# Altium integrated library TI Data Converters Analog to Digital Converter.IntLib: 2197 symbols (part 3 of 168)
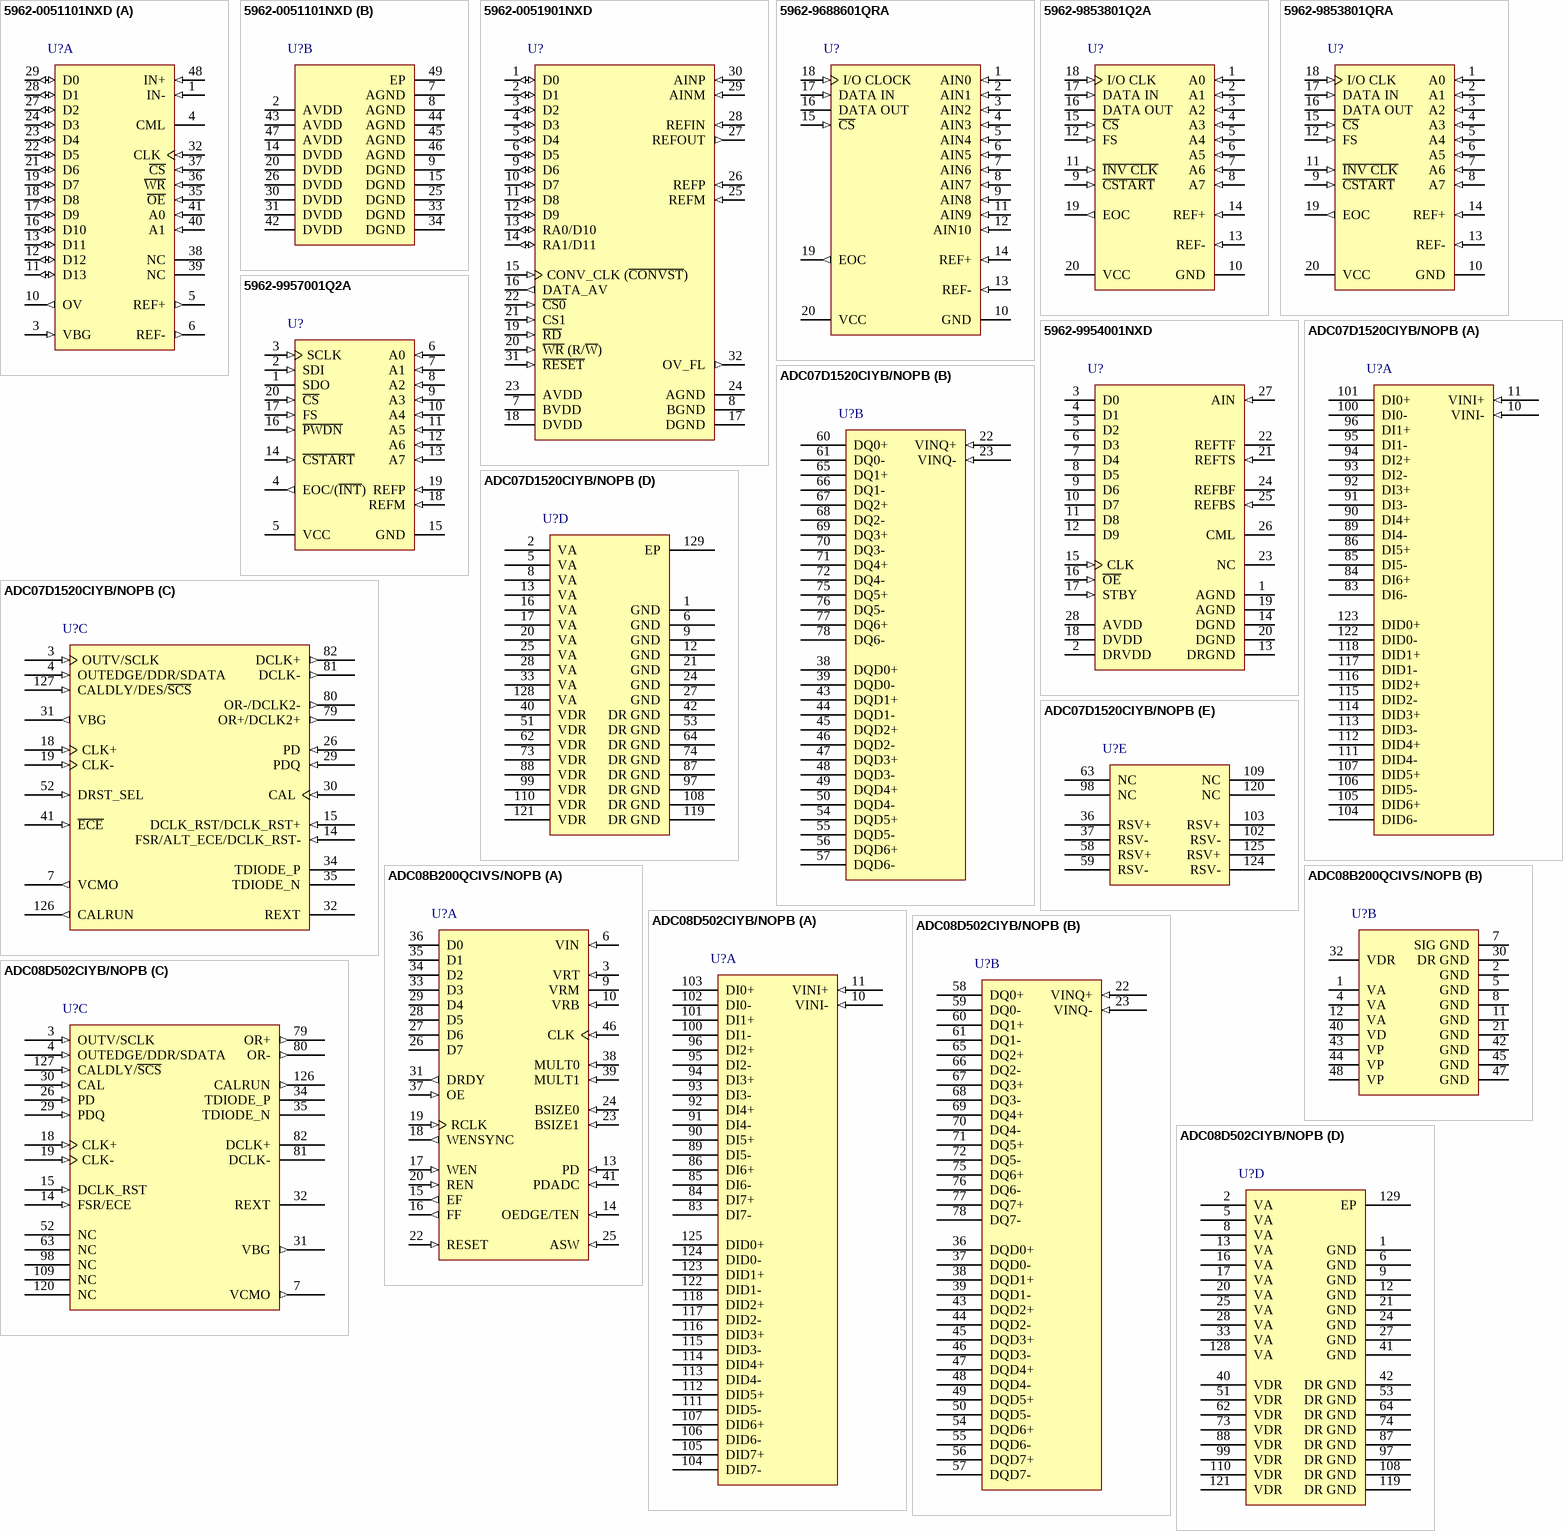
[diagram p128: symbols 5962-0051101NXD to ADC08D502CIYB/NOPB]

## ADC08D502CIYB/NOPB
designator U?
Low Power, Dual 8-Bit, 500 MSPS ADC, -40 to 85 degC, 128-pin QFP (NNB128), Green (RoHS & no Sb/Br); Manufacturer: Texas Instruments; PartNumber: ADC08D502CIYB/NOPB; # Input Channels: 2; Analog Voltage AV/DD(Min)(V): 1.8; Architecture: Folding Interpolating; ENOB(Bits): 7.5; INL(Max)(+/-LSB): 0.9; Interface: Parallel LVDS, Serial SPI Interface; Resolution(Bits): 8; Sample Rate(max)(SPS): 500M; SFDR(dB): 55; SINAD(dB): 47; SNR(dB): 48; SubFamily: High Speed ADC (>10MSPS); DatasheetVersion: SNOSC85A; PackageVersion: Rev. B, 02/2013; PackageReference: NNB128-5000X5000TP; PackageDescription: 128-Pin Plastic Flat Pack, Body 20 x 20 mm, Pitch 0.5 mm; Supplier 1: Mouser; Supplier Part Number 1: N/A; Analog Voltage AV/DD(Max)(V): 2; Digital Supply(Max)(V): 2; Digital Supply(Min)(V): 1.8; Eco-Plan: Green (RoHS & no Sb/Br); Mounting Technology: Surface Mount; ComponentLink1Description: Manufacturer URL; ComponentLink1URL: http://www.ti.com/; ComponentLink2Description: Datasheet; ComponentLink2URL: http://www.ti.com/lit/ds/symlink/adc08d502.pdf; ComponentLink3Description: Package Specification; ComponentLink3URL: http://www.ti.com/litv/pdf/mpqf323
footprint TI-NNB128-5000X5000TP_N (QFP, 128-Leads, Body 20x20mm, Pitch 0.5mm, Thermal Pad 5.1x5.1mm, IPC Medium Density)
footprint TI-NNB128-5000X5000TP_L (QFP, 128-Leads, Body 20x20mm, Pitch 0.5mm, Thermal Pad 5.1x5.1mm, IPC High Density)
footprint TI-NNB128-5000X5000TP_M (QFP, 128-Leads, Body 20x20mm, Pitch 0.5mm, Thermal Pad 5.1x5.1mm, IPC Low Density)
part A pins: 10 VINI- (in) "Analog signal inputs to the ADC. The differential full-scale input range is 650 mVP-P when the FSR pin is low, or 870 mVP-P when the FSR pin is high.", 11 VINI+ (in) "Analog signal inputs to the ADC. The differential full-scale input range is 650 mVP-P when the FSR pin is low, or 870 mVP-P when the FSR pin is high.", 83 DI7- (hiz) "I and Q channel LVDS Data Outputs that are not delayed in the output demultiplexer. Compared with the DId and DQd outputs, these outputs represent the later time samples. These outputs should always be terminated with a (See Datasheet)", 84 DI7+ (hiz) "I and Q channel LVDS Data Outputs that are not delayed in the output demultiplexer. Compared with the DId and DQd outputs, these outputs represent the later time samples. These outputs should always be terminated with a (See Datasheet)", 85 DI6- (hiz) "I and Q channel LVDS Data Outputs that are not delayed in the output demultiplexer. Compared with the DId and DQd outputs, these outputs represent the later time samples. These outputs should always be terminated with a (See Datasheet)", 86 DI6+ (hiz) "I and Q channel LVDS Data Outputs that are not delayed in the output demultiplexer. Compared with the DId and DQd outputs, these outputs represent the later time samples. These outputs should always be terminated with a (See Datasheet)", 89 DI5- (hiz) "I and Q channel LVDS Data Outputs that are not delayed in the output demultiplexer. Compared with the DId and DQd outputs, these outputs represent the later time samples. These outputs should always be terminated with a (See Datasheet)", 90 DI5+ (hiz) "I and Q channel LVDS Data Outputs that are not delayed in the output demultiplexer. Compared with the DId and DQd outputs, these outputs represent the later time samples. These outputs should always be terminated with a (See Datasheet)", 91 DI4- (hiz) "I and Q channel LVDS Data Outputs that are not delayed in the output demultiplexer. Compared with the DId and DQd outputs, these outputs represent the later time samples. These outputs should always be terminated with a (See Datasheet)", 92 DI4+ (hiz) "I and Q channel LVDS Data Outputs that are not delayed in the output demultiplexer. Compared with the DId and DQd outputs, these outputs represent the later time samples. These outputs should always be terminated with a (See Datasheet)", 93 DI3- (hiz) "I and Q channel LVDS Data Outputs that are not delayed in the output demultiplexer. Compared with the DId and DQd outputs, these outputs represent the later time samples. These outputs should always be terminated with a (See Datasheet)", 94 DI3+ (hiz) "I and Q channel LVDS Data Outputs that are not delayed in the output demultiplexer. Compared with the DId and DQd outputs, these outputs represent the later time samples. These outputs should always be terminated with a (See Datasheet)", 95 DI2- (hiz) "I and Q channel LVDS Data Outputs that are not delayed in the output demultiplexer. Compared with the DId and DQd outputs, these outputs represent the later time samples. These outputs should always be terminated with a (See Datasheet)", 96 DI2+ (hiz) "I and Q channel LVDS Data Outputs that are not delayed in the output demultiplexer. Compared with the DId and DQd outputs, these outputs represent the later time samples. These outputs should always be terminated with a (See Datasheet)", 100 DI1- (hiz) "I and Q channel LVDS Data Outputs that are not delayed in the output demultiplexer. Compared with the DId and DQd outputs, these outputs represent the later time samples. These outputs should always be terminated with a (See Datasheet)", 101 DI1+ (hiz) "I and Q channel LVDS Data Outputs that are not delayed in the output demultiplexer. Compared with the DId and DQd outputs, these outputs represent the later time samples. These outputs should always be terminated with a (See Datasheet)", 102 DI0- (hiz) "I and Q channel LVDS Data Outputs that are not delayed in the output demultiplexer. Compared with the DId and DQd outputs, these outputs represent the later time samples. These outputs should always be terminated with a (See Datasheet)", 103 DI0+ (hiz) "I and Q channel LVDS Data Outputs that are not delayed in the output demultiplexer. Compared with the DId and DQd outputs, these outputs represent the later time samples. These outputs should always be terminated with a (See Datasheet)", 104 DID7- (hiz) "I and Q channel LVDS Data Outputs that are delayed by one CLK cycle in the output demultiplexer. Compared with the DI/DQ outputs, these outputs represent the earlier time sample. These outputs should always be terminated (See Datasheet)", 105 DID7+ (hiz) "I and Q channel LVDS Data Outputs that are delayed by one CLK cycle in the output demultiplexer. Compared with the DI/DQ outputs, these outputs represent the earlier time sample. These outputs should always be terminated (See Datasheet)", 106 DID6- (hiz) "I and Q channel LVDS Data Outputs that are delayed by one CLK cycle in the output demultiplexer. Compared with the DI/DQ outputs, these outputs represent the earlier time sample. These outputs should always be terminated (See Datasheet)", 107 DID6+ (hiz) "I and Q channel LVDS Data Outputs that are delayed by one CLK cycle in the output demultiplexer. Compared with the DI/DQ outputs, these outputs represent the earlier time sample. These outputs should always be terminated (See Datasheet)", 111 DID5- (hiz) "I and Q channel LVDS Data Outputs that are delayed by one CLK cycle in the output demultiplexer. Compared with the DI/DQ outputs, these outputs represent the earlier time sample. These outputs should always be terminated (See Datasheet)", 112 DID5+ (hiz) "I and Q channel LVDS Data Outputs that are delayed by one CLK cycle in the output demultiplexer. Compared with the DI/DQ outputs, these outputs represent the earlier time sample. These outputs should always be terminated (See Datasheet)", 113 DID4- (hiz) "I and Q channel LVDS Data Outputs that are delayed by one CLK cycle in the output demultiplexer. Compared with the DI/DQ outputs, these outputs represent the earlier time sample. These outputs should always be terminated (See Datasheet)", 114 DID4+ (hiz) "I and Q channel LVDS Data Outputs that are delayed by one CLK cycle in the output demultiplexer. Compared with the DI/DQ outputs, these outputs represent the earlier time sample. These outputs should always be terminated (See Datasheet)", 115 DID3- (hiz) "I and Q channel LVDS Data Outputs that are delayed by one CLK cycle in the output demultiplexer. Compared with the DI/DQ outputs, these outputs represent the earlier time sample. These outputs should always be terminated (See Datasheet)", 116 DID3+ (hiz) "I and Q channel LVDS Data Outputs that are delayed by one CLK cycle in the output demultiplexer. Compared with the DI/DQ outputs, these outputs represent the earlier time sample. These outputs should always be terminated (See Datasheet)", 117 DID2- (hiz) "I and Q channel LVDS Data Outputs that are delayed by one CLK cycle in the output demultiplexer. Compared with the DI/DQ outputs, these outputs represent the earlier time sample. These outputs should always be terminated (See Datasheet)", 118 DID2+ (hiz) "I and Q channel LVDS Data Outputs that are delayed by one CLK cycle in the output demultiplexer. Compared with the DI/DQ outputs, these outputs represent the earlier time sample. These outputs should always be terminated (See Datasheet)", 122 DID1- (hiz) "I and Q channel LVDS Data Outputs that are delayed by one CLK cycle in the output demultiplexer. Compared with the DI/DQ outputs, these outputs represent the earlier time sample. These outputs should always be terminated (See Datasheet)", 123 DID1+ (hiz) "I and Q channel LVDS Data Outputs that are delayed by one CLK cycle in the output demultiplexer. Compared with the DI/DQ outputs, these outputs represent the earlier time sample. These outputs should always be terminated (See Datasheet)", 124 DID0- (hiz) "I and Q channel LVDS Data Outputs that are delayed by one CLK cycle in the output demultiplexer. Compared with the DI/DQ outputs, these outputs represent the earlier time sample. These outputs should always be terminated (See Datasheet)", 125 DID0+ (hiz) "I and Q channel LVDS Data Outputs that are delayed by one CLK cycle in the output demultiplexer. Compared with the DI/DQ outputs, these outputs represent the earlier time sample. These outputs should always be terminated (See Datasheet)"
part B pins: 22 VINQ+ (in) "Analog signal inputs to the ADC. The differential full-scale input range is 650 mVP-P when the FSR pin is low, or 870 mVP-P when the FSR pin is high.", 23 VINQ- (in) "Analog signal inputs to the ADC. The differential full-scale input range is 650 mVP-P when the FSR pin is low, or 870 mVP-P when the FSR pin is high.", 36 DQD0+ (hiz) "I and Q channel LVDS Data Outputs that are delayed by one CLK cycle in the output demultiplexer. Compared with the DI/DQ outputs, these outputs represent the earlier time sample. These outputs should always be terminated (See Datasheet)", 37 DQD0- (hiz) "I and Q channel LVDS Data Outputs that are delayed by one CLK cycle in the output demultiplexer. Compared with the DI/DQ outputs, these outputs represent the earlier time sample. These outputs should always be terminated (See Datasheet)", 38 DQD1+ (hiz) "I and Q channel LVDS Data Outputs that are delayed by one CLK cycle in the output demultiplexer. Compared with the DI/DQ outputs, these outputs represent the earlier time sample. These outputs should always be terminated (See Datasheet)", 39 DQD1- (hiz) "I and Q channel LVDS Data Outputs that are delayed by one CLK cycle in the output demultiplexer. Compared with the DI/DQ outputs, these outputs represent the earlier time sample. These outputs should always be terminated (See Datasheet)", 43 DQD2+ (hiz) "I and Q channel LVDS Data Outputs that are delayed by one CLK cycle in the output demultiplexer. Compared with the DI/DQ outputs, these outputs represent the earlier time sample. These outputs should always be terminated (See Datasheet)", 44 DQD2- (hiz) "I and Q channel LVDS Data Outputs that are delayed by one CLK cycle in the output demultiplexer. Compared with the DI/DQ outputs, these outputs represent the earlier time sample. These outputs should always be terminated (See Datasheet)", 45 DQD3+ (hiz) "I and Q channel LVDS Data Outputs that are delayed by one CLK cycle in the output demultiplexer. Compared with the DI/DQ outputs, these outputs represent the earlier time sample. These outputs should always be terminated (See Datasheet)", 46 DQD3- (hiz) "I and Q channel LVDS Data Outputs that are delayed by one CLK cycle in the output demultiplexer. Compared with the DI/DQ outputs, these outputs represent the earlier time sample. These outputs should always be terminated (See Datasheet)", 47 DQD4+ (hiz) "I and Q channel LVDS Data Outputs that are delayed by one CLK cycle in the output demultiplexer. Compared with the DI/DQ outputs, these outputs represent the earlier time sample. These outputs should always be terminated (See Datasheet)", 48 DQD4- (hiz) "I and Q channel LVDS Data Outputs that are delayed by one CLK cycle in the output demultiplexer. Compared with the DI/DQ outputs, these outputs represent the earlier time sample. These outputs should always be terminated (See Datasheet)", 49 DQD5+ (hiz) "I and Q channel LVDS Data Outputs that are delayed by one CLK cycle in the output demultiplexer. Compared with the DI/DQ outputs, these outputs represent the earlier time sample. These outputs should always be terminated (See Datasheet)", 50 DQD5- (hiz) "I and Q channel LVDS Data Outputs that are delayed by one CLK cycle in the output demultiplexer. Compared with the DI/DQ outputs, these outputs represent the earlier time sample. These outputs should always be terminated (See Datasheet)", 54 DQD6+ (hiz) "I and Q channel LVDS Data Outputs that are delayed by one CLK cycle in the output demultiplexer. Compared with the DI/DQ outputs, these outputs represent the earlier time sample. These outputs should always be terminated (See Datasheet)", 55 DQD6- (hiz) "I and Q channel LVDS Data Outputs that are delayed by one CLK cycle in the output demultiplexer. Compared with the DI/DQ outputs, these outputs represent the earlier time sample. These outputs should always be terminated (See Datasheet)", 56 DQD7+ (hiz) "I and Q channel LVDS Data Outputs that are delayed by one CLK cycle in the output demultiplexer. Compared with the DI/DQ outputs, these outputs represent the earlier time sample. These outputs should always be terminated (See Datasheet)", 57 DQD7- (hiz) "I and Q channel LVDS Data Outputs that are delayed by one CLK cycle in the output demultiplexer. Compared with the DI/DQ outputs, these outputs represent the earlier time sample. These outputs should always be terminated (See Datasheet)", 58 DQ0+ (hiz) "I and Q channel LVDS Data Outputs that are not delayed in the output demultiplexer. Compared with the DId and DQd outputs, these outputs represent the later time samples. These outputs should always be terminated with a (See Datasheet)", 59 DQ0- (hiz) "I and Q channel LVDS Data Outputs that are not delayed in the output demultiplexer. Compared with the DId and DQd outputs, these outputs represent the later time samples. These outputs should always be terminated with a (See Datasheet)", 60 DQ1+ (hiz) "I and Q channel LVDS Data Outputs that are not delayed in the output demultiplexer. Compared with the DId and DQd outputs, these outputs represent the later time samples. These outputs should always be terminated with a (See Datasheet)", 61 DQ1- (hiz) "I and Q channel LVDS Data Outputs that are not delayed in the output demultiplexer. Compared with the DId and DQd outputs, these outputs represent the later time samples. These outputs should always be terminated with a (See Datasheet)", 65 DQ2+ (hiz) "I and Q channel LVDS Data Outputs that are not delayed in the output demultiplexer. Compared with the DId and DQd outputs, these outputs represent the later time samples. These outputs should always be terminated with a (See Datasheet)", 66 DQ2- (hiz) "I and Q channel LVDS Data Outputs that are not delayed in the output demultiplexer. Compared with the DId and DQd outputs, these outputs represent the later time samples. These outputs should always be terminated with a (See Datasheet)", 67 DQ3+ (hiz) "I and Q channel LVDS Data Outputs that are not delayed in the output demultiplexer. Compared with the DId and DQd outputs, these outputs represent the later time samples. These outputs should always be terminated with a (See Datasheet)", 68 DQ3- (hiz) "I and Q channel LVDS Data Outputs that are not delayed in the output demultiplexer. Compared with the DId and DQd outputs, these outputs represent the later time samples. These outputs should always be terminated with a (See Datasheet)", 69 DQ4+ (hiz) "I and Q channel LVDS Data Outputs that are not delayed in the output demultiplexer. Compared with the DId and DQd outputs, these outputs represent the later time samples. These outputs should always be terminated with a (See Datasheet)", 70 DQ4- (hiz) "I and Q channel LVDS Data Outputs that are not delayed in the output demultiplexer. Compared with the DId and DQd outputs, these outputs represent the later time samples. These outputs should always be terminated with a (See Datasheet)", 71 DQ5+ (hiz) "I and Q channel LVDS Data Outputs that are not delayed in the output demultiplexer. Compared with the DId and DQd outputs, these outputs represent the later time samples. These outputs should always be terminated with a (See Datasheet)", 72 DQ5- (hiz) "I and Q channel LVDS Data Outputs that are not delayed in the output demultiplexer. Compared with the DId and DQd outputs, these outputs represent the later time samples. These outputs should always be terminated with a (See Datasheet)", 75 DQ6+ (hiz) "I and Q channel LVDS Data Outputs that are not delayed in the output demultiplexer. Compared with the DId and DQd outputs, these outputs represent the later time samples. These outputs should always be terminated with a (See Datasheet)", 76 DQ6- (hiz) "I and Q channel LVDS Data Outputs that are not delayed in the output demultiplexer. Compared with the DId and DQd outputs, these outputs represent the later time samples. These outputs should always be terminated with a (See Datasheet)", 77 DQ7+ (hiz) "I and Q channel LVDS Data Outputs that are not delayed in the output demultiplexer. Compared with the DId and DQd outputs, these outputs represent the later time samples. These outputs should always be terminated with a (See Datasheet)", 78 DQ7- (hiz) "I and Q channel LVDS Data Outputs that are not delayed in the output demultiplexer. Compared with the DId and DQd outputs, these outputs represent the later time samples. These outputs should always be terminated with a (See Datasheet)"
part C pins: 3 OUTV/SCLK (in) "Output Voltage Amplitude and Serial Interface Clock. Tie this pin high for normal differential DCLK and data amplitude. Ground this pin for a reduced differential output amplitude and reduced power consumption. When the (See Datasheet)", 4 OUTEDGE/DDR/SDATA (in) "DCLK Edge Select, Double Data Rate Enable and Serial Data Input. This input sets the output edge of DCLK+ at which the output data transitions. When this pin is floating or connected to 1/2 the supply voltage, DDR clocking (See Datasheet)", 7 VCMO (out) "Common Mode Voltage. This pin is the common mode output in d.c. coupling mode and also serves as the a.c. coupling mode select pin. When d.c. coupling is used, the voltage output at this pin is required to be the common mode (See Datasheet)", 14 FSR/ECE (in) "Full Scale Range Select and Extended Control Enable. In nonextended control mode, a logic low on this pin sets the full-scale differential input range to 650 mVP-P. A logic high on this pin sets the full-scale differential (See Datasheet)", 15 DCLK_RST (in) "DCLK Reset. A positive pulse on this pin is used to reset and synchronize the DCLK outs of multiple converters.", 18 CLK+ (in) "LVDS Clock input pins for the ADC. The differential clock signal must be a.c. coupled to these pins. The input signal is sampled on the falling edge of CLK+.", 19 CLK- (in) "LVDS Clock input pins for the ADC. The differential clock signal must be a.c. coupled to these pins. The input signal is sampled on the falling edge of CLK+.", 26 PD (in) "Power Down Pins. A logic high on the PD pin puts the entire device into the Power Down Mode.", 29 PDQ (in) "A logic high on the PDQ pin puts only the "Q" ADC into the Power Down mode.", 30 CAL (in) "Calibration Cycle Initiate. A minimum 80 input clock cycles logic low followed by a minimum of 80 input clock cycles high on this pin initiates the self calibration sequence.", 31 VBG (out) "Bandgap output voltage capable of 100 uA source/sink.", 32 REXT "External bias resistor connection. Nominal value is 3.3k-Ohms (+/-0.1%) to ground.", 34 TDIODE_P "Temperature Diode Positive (Anode) and Negative (Cathode). These pins may be used for die temperature measurements, however no specified accuracy is implied or ensured. Noise coupling from adjacent output data signals has (See Datasheet)", 35 TDIODE_N "Temperature Diode Positive (Anode) and Negative (Cathode). These pins may be used for die temperature measurements, however no specified accuracy is implied or ensured. Noise coupling from adjacent output data signals has (See Datasheet)", 52 NC "No Connection. Make no connection to these pins.", 63 NC "No Connection. Make no connection to these pins.", 79 OR+ (out) "Out Of Range output. A differential high at these pins indicates that the differential input is out of range (outside the range +/-325 mV or +/-435 mV as defined by the FSR pin).", 80 OR- (out) "Out Of Range output. A differential high at these pins indicates that the differential input is out of range (outside the range +/-325 mV or +/-435 mV as defined by the FSR pin).", 81 DCLK- (hiz) "Differential Clock outputs used to latch the output data. Delayed and non-delayed data outputs are supplied synchronous to this signal. This signal is at 1/2 the input clock rate in SDR mode and at 1/4 the input clock rate (See Datasheet)", 82 DCLK+ (hiz) "Differential Clock outputs used to latch the output data. Delayed and non-delayed data outputs are supplied synchronous to this signal. This signal is at 1/2 the input clock rate in SDR mode and at 1/4 the input clock rate (See Datasheet)", 98 NC "No Connection. Make no connection to these pins.", 109 NC "No Connection. Make no connection to these pins.", 120 NC "No Connection. Make no connection to these pins.", 126 CALRUN (out) "Calibration Running indication. This pin is at a logic high when calibration is running.", 127 CALDLY/~{SCS} (in) "Calibration Delay and Serial Interface Chip Select. With a logic high or low on pin 14, this pin functions as Calibration Delay and sets the number of clock cycles after power up before calibration. With pin 14 floating, (See Datasheet)"
part D pins: 1 GND (power) "Ground return for VA.", 2 VA (power) "Analog power supply pins. Bypass these pins to ground.", 5 VA (power) "Analog power supply pins. Bypass these pins to ground.", 6 GND (power) "Ground return for VA.", 8 VA (power) "Analog power supply pins. Bypass these pins to ground.", 9 GND (power) "Ground return for VA.", 12 GND (power) "Ground return for VA.", 13 VA (power) "Analog power supply pins. Bypass these pins to ground.", 16 VA (power) "Analog power supply pins. Bypass these pins to ground.", 17 VA (power) "Analog power supply pins. Bypass these pins to ground.", 20 VA (power) "Analog power supply pins. Bypass these pins to ground.", 21 GND (power) "Ground return for VA.", 24 GND (power) "Ground return for VA.", 25 VA (power) "Analog power supply pins. Bypass these pins to ground.", 27 GND (power) "Ground return for VA.", 28 VA (power) "Analog power supply pins. Bypass these pins to ground.", 33 VA (power) "Analog power supply pins. Bypass these pins to ground.", 40 VDR (power) "Output Driver power supply pins. Bypass these pins to DR GND.", 41 GND (power) "Ground return for VA.", 42 DR GND (power) "Ground return for VDR.", 51 VDR (power) "Output Driver power supply pins. Bypass these pins to DR GND.", 53 DR GND (power) "Ground return for VDR.", 62 VDR (power) "Output Driver power supply pins. Bypass these pins to DR GND.", 64 DR GND (power) "Ground return for VDR.", 73 VDR (power) "Output Driver power supply pins. Bypass these pins to DR GND.", 74 DR GND (power) "Ground return for VDR.", 87 DR GND (power) "Ground return for VDR.", 88 VDR (power) "Output Driver power supply pins. Bypass these pins to DR GND.", 97 DR GND (power) "Ground return for VDR.", 99 VDR (power) "Output Driver power supply pins. Bypass these pins to DR GND.", 108 DR GND (power) "Ground return for VDR.", 110 VDR (power) "Output Driver power supply pins. Bypass these pins to DR GND.", 119 DR GND (power) "Ground return for VDR.", 121 VDR (power) "Output Driver power supply pins. Bypass these pins to DR GND.", 128 VA (power) "Analog power supply pins. Bypass these pins to ground.", 129 EP (power) "Exposed pad on back of package must be soldered to ground plane to ensure rated performance"

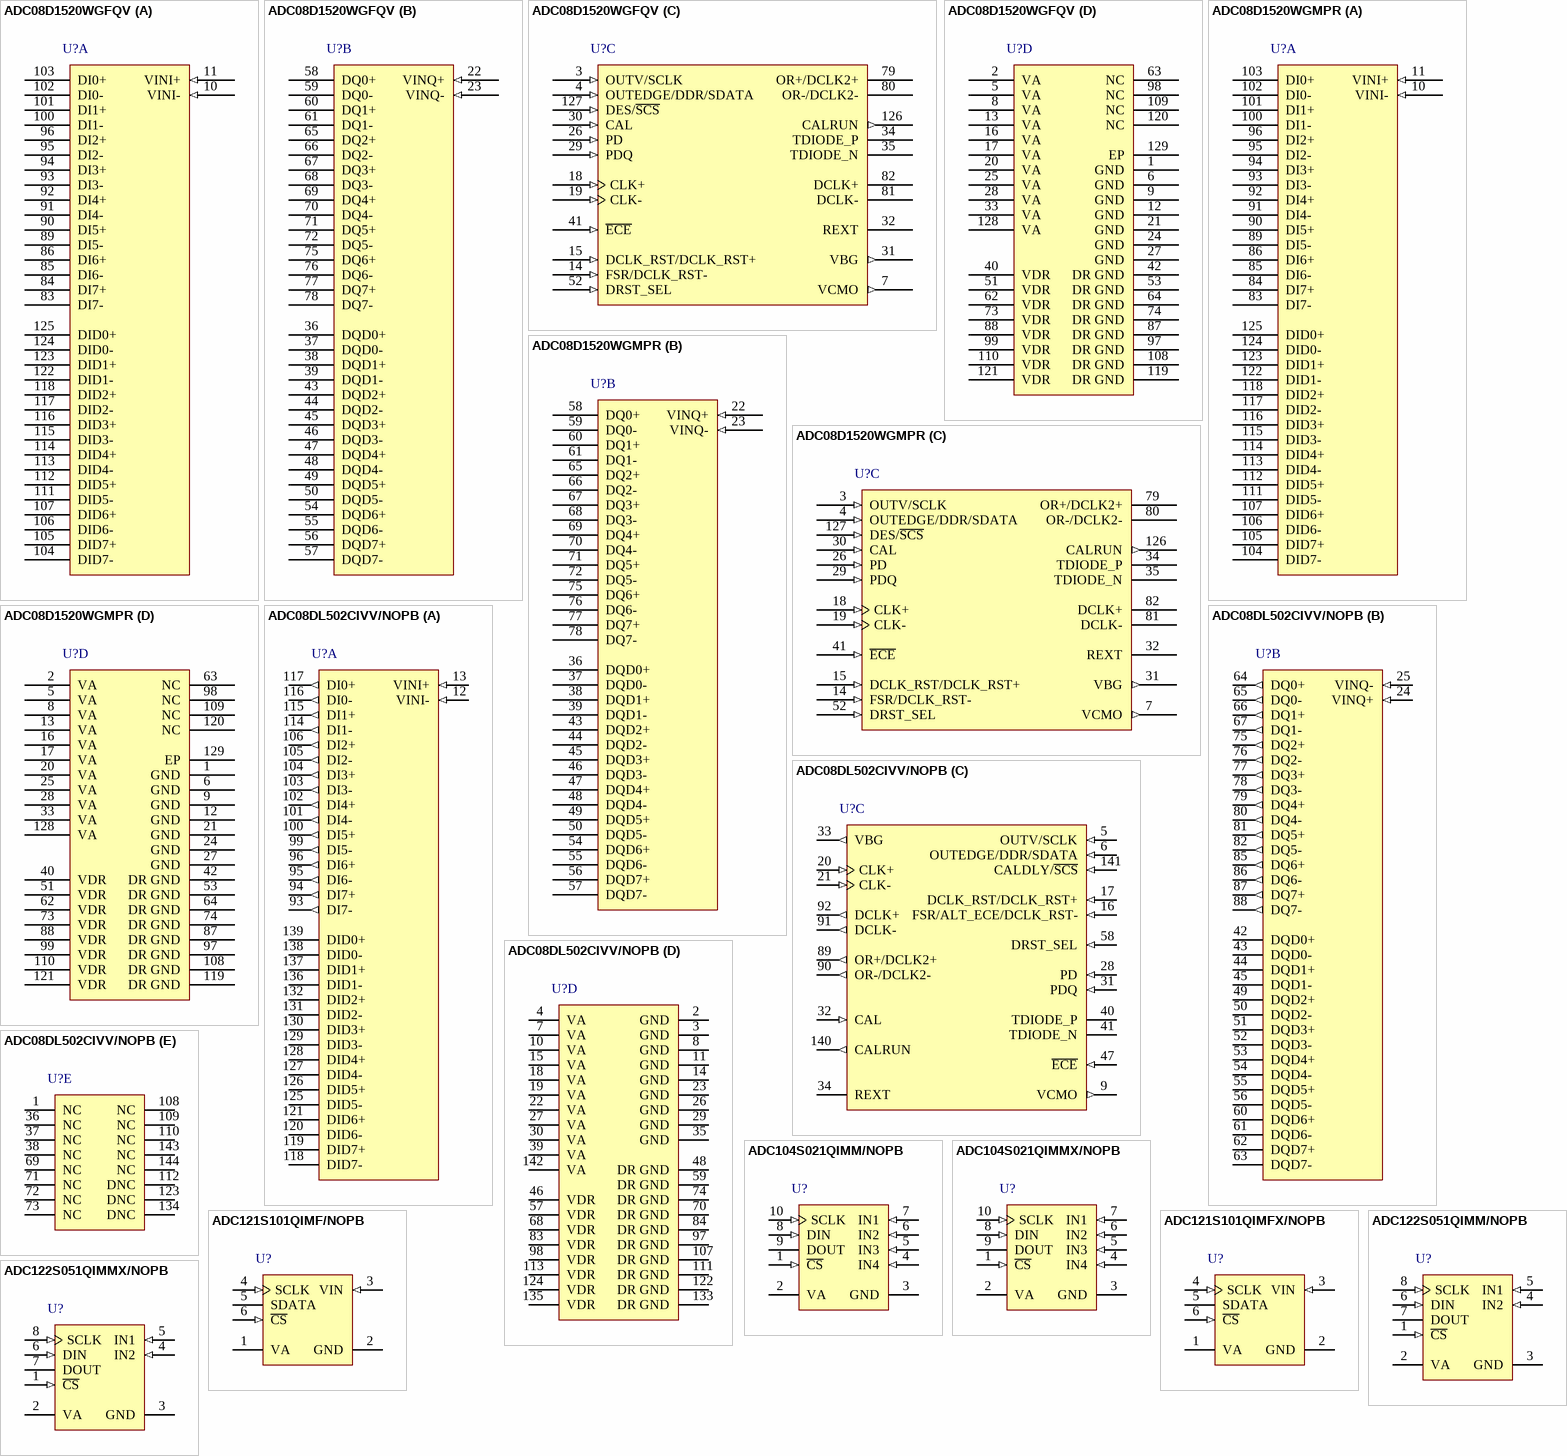
[diagram p1: symbols ADC08D1520WGFQV to ADC122S051QIMMX/NOPB]